# Altium schematic symbol library CDCE913PWR.SchLib: 2 symbols
Pins are listed as number, name and electrical type; pins without a type are passive.

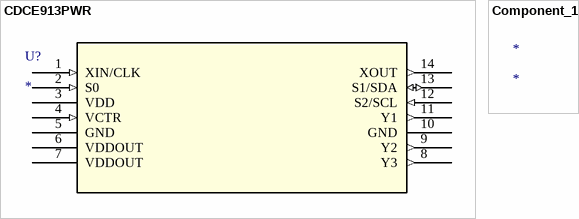
[diagram p0: symbols CDCE913PWR to Component_1]

## CDCE913PWR
designator U?
No Description Available; Mfr_Name: Texas Instruments; RefDes: RefDes; Type: Type
footprint PW14
pins: 1 XIN/CLK (in), 2 S0 (in), 3 VDD (power), 4 VCTR (in), 5 GND (power), 6 VDDOUT (power), 7 VDDOUT (power), 8 Y3 (out), 9 Y2 (out), 10 GND (power), 11 Y1 (out), 12 S2/SCL (in), 13 S1/SDA (io), 14 XOUT (out)

## Component_1
designator *